# Altium footprint library zhangchong.PcbLib: 17 footprints (part 2 of 2)
Each footprint in its own frame and in the unit in brackets; x right, y up, seen from the top. Pads: shape width x height; smd on the part's side, far side on the other; paste and mask are expansions set on the pad; w line width, h text height; cw(c..) or ccw(c..) is an arc to the next point about the centre after c.
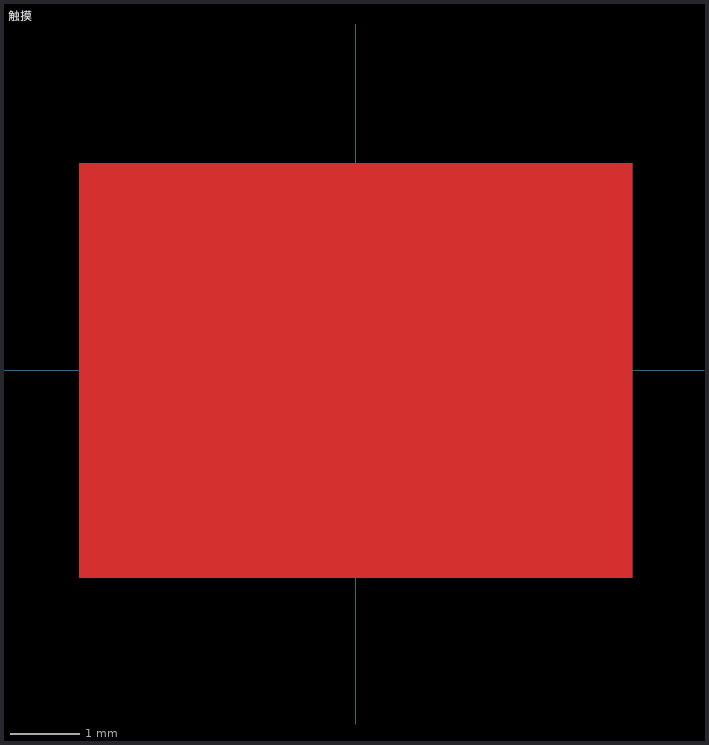
[diagram p1: the footprint, top view; thin cyan lines are the x and y axes]

## 触摸 [mm]
Top Layer:
  rectangle: -4,-3 4,3
Bottom Layer:
  rectangle: -4,-3 4,3
Top Solder:
  rectangle: -4.623,-3.378 4.572,3.277
Bottom Solder:
  rectangle: -4.623,-3.378 4.572,3.277